# Altium schematic symbol library 74VHC86.SchLib: 1 symbol
Pins are listed as number, name and electrical type; pins without a type are passive.

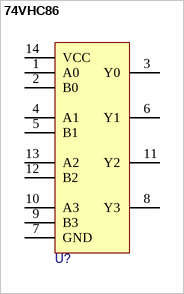
[diagram p0: symbol 74VHC86]

## 74VHC86
designator U?
pins: 1 A0, 2 B0, 3 Y0, 4 A1, 5 B1, 6 Y1, 7 GND, 8 Y3, 9 B3, 10 A3, 11 Y2, 12 B2, 13 A2, 14 VCC